# Altium footprint library Net Tie.PcbLib: 10 footprints
Each footprint in its own frame and in the unit in brackets; x right, y up, seen from the top. Pads: shape width x height; smd on the part's side, far side on the other; paste and mask are expansions set on the pad; w line width, h text height; cw(c..) or ccw(c..) is an arc to the next point about the centre after c.
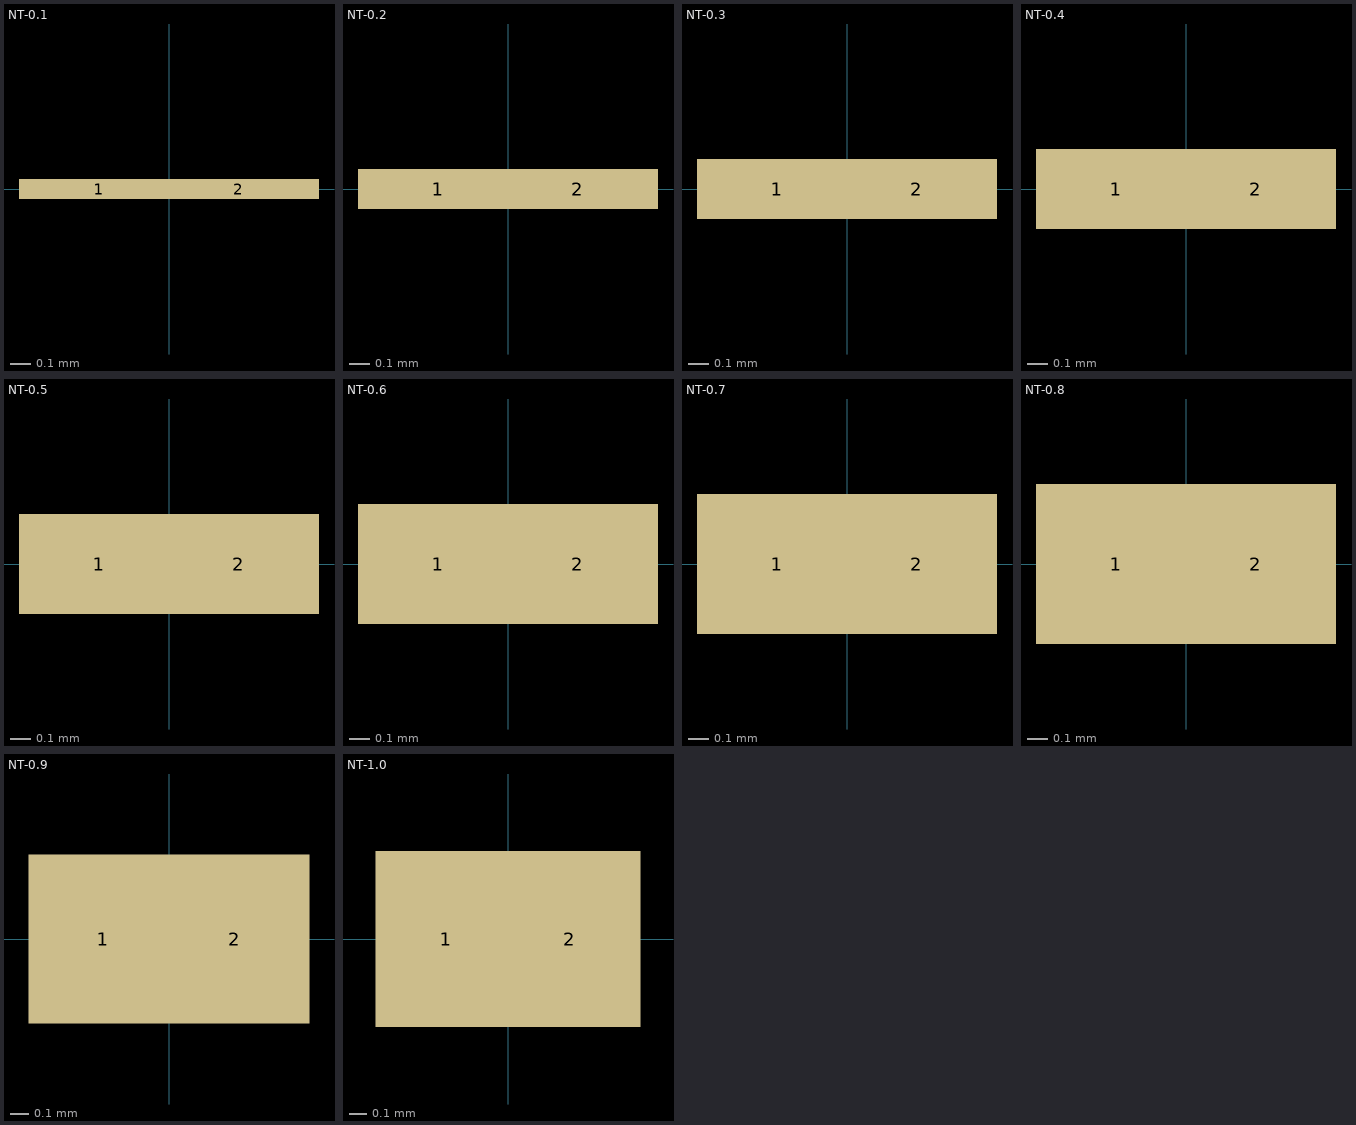
[diagram p0: the footprints below, top view; thin cyan lines are the x and y axes]

## NT-0.1 [mm] "0.1 mm Width Net Tie"
pads (2):
  rect 0.8x0.1 smd paste-2 mask-2: 1(-0.35,0) 2(0.35,0)

## NT-0.2 [mm] "0.2 mm Width Net Tie"
pads (2):
  rect 0.8x0.2 smd paste-2 mask-2: 1(-0.35,0) 2(0.35,0)

## NT-0.3 [mm] "0.3 mm Width Net Tie"
pads (2):
  rect 0.8x0.3 smd paste-2 mask-2: 1(-0.35,0) 2(0.35,0)

## NT-0.4 [mm] "0.4 mm Width Net Tie"
pads (2):
  rect 0.8x0.4 smd paste-2 mask-2: 1(-0.35,0) 2(0.35,0)

## NT-0.5 [mm] "0.5 mm Width Net Tie"
pads (2):
  rect 0.8x0.5 smd paste-2 mask-2: 1(-0.35,0) 2(0.35,0)

## NT-0.6 [mm] "0.6 mm Width Net Tie"
pads (2):
  rect 0.8x0.6 smd paste-2 mask-2: 1(-0.35,0) 2(0.35,0)

## NT-0.7 [mm] "0.7 mm Width Net Tie"
pads (2):
  rect 0.8x0.7 smd paste-2 mask-2: 1(-0.35,0) 2(0.35,0)

## NT-0.8 [mm] "0.8 mm Width Net Tie"
pads (2):
  rect 0.8x0.8 smd paste-2 mask-2: 1(-0.35,0) 2(0.35,0)

## NT-0.9 [mm] "0.9 mm Width Net Tie"
pads (2):
  rect 0.8x0.9 smd paste-2 mask-2: 1(-0.35,0) 2(0.35,0)

## NT-1.0 [mm] "1.0 mm Width Net Tie"
pads (2):
  rect 0.8x1 smd paste-2 mask-2: 1(-0.35,0) 2(0.35,0)